# EAGLE library part SRAM-23LC1024 (library arducorder-mini)
Microchip 24LC1024 1Mbit (128KB) Serial SPI SRAM
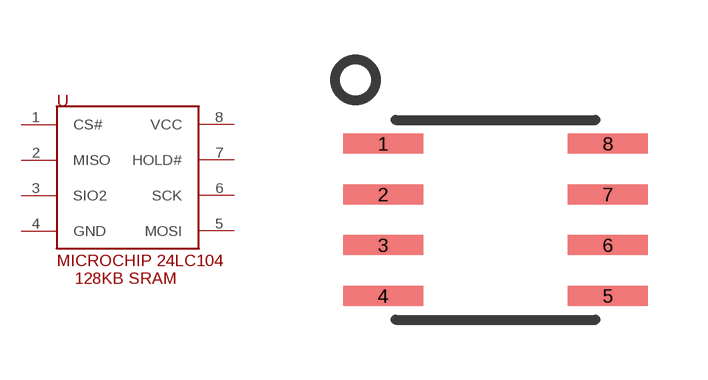
[diagram p28: symbol with the pads of 8-SOIC; footprint 8-SOIC]

Designator prefix -

## SRAM-23LC1024  [8-SOIC]
1  CS#
2  MISO
3  SIO2
4  GND
5  MOSI
6  SCK
7  HOLD#
8  VCC

## Footprint 8-SOIC (pad centres in mm)
smd 2 x 0.5: 1 -2.81,1.905; 2 -2.81,0.635; 3 -2.81,-0.635; 4 -2.81,-1.905; 5 2.81,-1.905; 6 2.81,-0.635; 7 2.81,0.635; 8 2.81,1.905